# Altium schematic symbol library RMO-V_LibSch.SchLib: 17 symbols
Pins are listed as number, name and electrical type; pins without a type are passive.

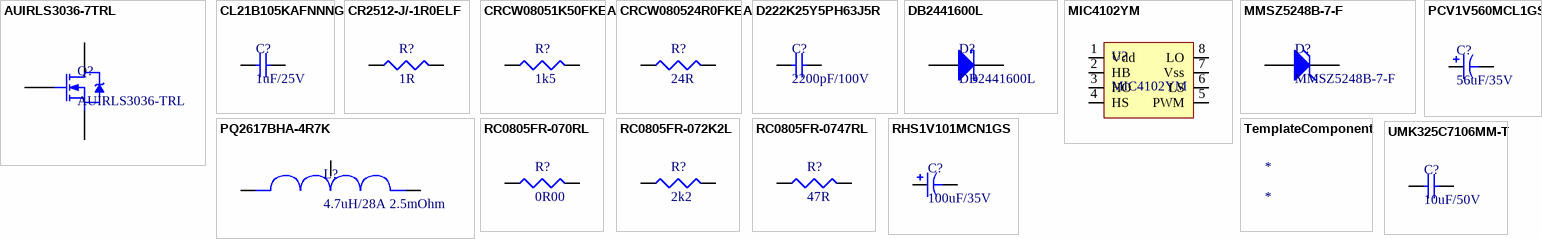
[diagram p0: symbols AUIRLS3036-7TRL to UMK325C7106MM-T]

## AUIRLS3036-7TRL
designator Q?, comment AUIRLS3036-TRL
Trans MOSFET N-CH 60V 300A Automotive 7-Pin(6+Tab) D2PAK T/R; Manufacturer: International Rectifier; Manufacturer Part Number: AUIRLS3036-7TRL; Rise Time: 540ns; Rds On Max: 1.9mR; Input Capacitance: 11.27nF; Drain to Source Resistance: 2.2mR; Power Dissipation: 380W; Number of Elements: 1; Turn-On Delay Time: 81ns; Turn-Off Delay Time: 89ns; Fall Time: 170ns; Gate to Source Voltage (Vgs): 16V; Mount: Surface Mount; Case/Package: D2PAK; Number of Pins: 7; Min Operating Temperature: -55°C; Max Operating Temperature: 175°C; Packaging: Tape and Reel; Package Quantity: 800; Continuous Drain Current (ID): 300A; Drain to Source Breakdown Voltage: 60V; Drain to Source Voltage (Vdss): 60V; Max Power Dissipation: 380W; Radiation Hardening: No; ComponentLink1URL: http://www.irf.com/product-info/datasheets/data/auirls3036-7p.pdf?src-supplier=Digi-Key; ComponentLink1Description: http://www.irf.com/product-info/datasheets/data/auirls3036-7p.pdf?src-supplier=Digi-Key; ComponentLink2URL: http://www.irf.com/product-info/datasheets/data/auirls3036-7p.pdf?src-supplier=Avnet; ComponentLink2Description: http://www.irf.com/product-info/datasheets/data/auirls3036-7p.pdf?src-supplier=Avnet; ComponentLink3URL: http://www.irf.com/product-info/datasheets/data/auirls3036-7p.pdf?src-supplier=Avnet+Europe; ComponentLink3Description: http://www.irf.com/product-info/datasheets/data/auirls3036-7p.pdf?src-supplier=Avnet+Europe; Category: MOSFET
pins: 1 G, 2 D, 3 S

## CL21B105KAFNNNG
designator C?, comment 1uF/25V
1µF ±10% 25V Ceramic Capacitor X7R 0805 (2012 Metric); Manufacturer: Samsung Electro-Mechanics; Manufacturer Part Number: CL21B105KAFNNNG; Type: SMD; Package: CAPC2012X88N; Category: Capasitor; Max Rated Voltage: 25V; Temperature coefficient: X7R; Supplier1: Digi-key; Supplier part number: 1276-6469-2-ND; ComponentLink1Description: Datasheet; ComponentLink1URL: http://www.samsungsem.com/kr/support/product-search/mlcc/__icsFiles/afieldfile/2019/06/18/CL21B105KAFNNNG-19.pdf; Tolerance: 10%
pins: 1, 2

## CR2512-J/-1R0ELF
designator R?, comment 1R
Thick Film Resistors - SMD CHIP RESISTOR; Manufacturer: Bourns; Manufacturer Part Number: CR2512-J/-1R0ELF; Power rating: 1W; Tolerance: 5%; Voltage rating: 200V; Package: RESC2012X60N; Category: Resistor; Resistance: 1R; Type: SMD; Supplier1: Mouser; Supplier part number: 652-CR2512-J/-1R0ELF; ComponentLink1Description: Datasheet; ComponentLink1URL: https://eu.mouser.com/datasheet/2/54/cr2010-777415.pdf
pins: 1, 2

## CRCW08051K50FKEA
designator R?, comment 1k5
Res Thick Film 0805 1.5K Ohm 1% 1/8W ±100ppm/°C Molded SMD Paper T/R; Manufacturer: Vishay; Manufacturer Part Number: CRCW08051K50FKEA; Power rating: 0.125 W; Package: RESC2012X60N; Category: Resistor; Resistance: 1k5; Tolerance: 1%; Number of pins: 2; Type: SMD; Supplier1: Future electronics; Supplier part number: CRCW08051K50FKEA; ComponentLink1Description: Datasheet; ComponentLink1URL: http://www.vishay.com/docs/20035/dcrcwe3.pdf
pins: 1, 2

## CRCW080524R0FKEA
designator R?, comment 24R
Res Thick Film 0805 24 Ohm 1% 1/8W ±100ppm/°C Molded SMD Paper T/R; Manufacturer: Vishay; Manufacturer Part Number: CRCW080524R0FKEA; Power rating: 0.125W; Package: RESC1608X50N; Category: Resistor; Resistance: 24R; Tolerance: 1%; Number of pins: 2; Type: SMD; Supplier1: Avnet abacus; Supplier part number: CRCW080524R0FKEA; ComponentLink1Description: Datasheet; ComponentLink1URL: http://www.vishay.com/docs/20035/dcrcwe3.pdf
pins: 1, 2

## D222K25Y5PH63J5R
designator C?, comment 2200pF/100V
D222K25Y5PH63J5R -  Ceramic Disc Capacitor, 2200 pF, 100 V, D Series, ± 10%, Y5P, 5 mm; Manufacturer: Vishay; Max Rated Voltage: 100V; Type: THT; Manufacturer Part Number: D222K25Y5PH63J5R; Package: *; Category: Capasitor; Dielectric Characteristic: Y5P; Supplier1: Farnell; Supplier part number: 1827838; Tolerance: 10%; ComponentLink1Description: Datasheet; ComponentLink1URL: http://www.farnell.com/datasheets/2046069.pdf?_ga=2.161221557.908146518.1581324380-437978810.1505463394
pins: 1, 2

## DB2441600L
designator D?
Diodes - General Purpose, Power, Switching Schottky Barrier Diode; Manufacturer: Panasonic; Peak Reverse Voltage: 40 V; Max Surge Current: 50 A; Forward Current: 3 A; Type: SMD; Manufacturer Part Number: DB2441600L; Package: *; Category: Shottky; Supplier1: Mouser; Supplier part number: 667-DB2441600L; ComponentLink1Description: Datasheet; ComponentLink1URL: https://eu.mouser.com/datasheet/2/315/DB2441600L_E-1141476.pdf
pins: 1 A, 2 K

## MIC4102YM
designator U?
Gate Drivers 100V HalfBridge MOSFET Driver with Anti-Shoot-through Circuitry; Manufacturer: Microchip; Max Output Current: 3A; Max Supply Voltage: 16V; Min Supply Voltage: 9V; Number of Outputs: 2; Rise Time: 10ns; Nominal Supply Current: 3mA; Channel Type: Synchronous; Fall Time: 6ns; Supplier 1: RSComponents; Manufacturer Part Number: MIC4102YM; Stock 1: 0; Mount: Surface Mount; Case/Package: SOIC; Number of Pins: 8; Min Operating Temperature: -40°C; Max Operating Temperature: 125°C; Packaging: Rail/Tube; Output Current: 3A; Package Quantity: 95; Number of Drivers: 2; Termination: SMD/SMT; Length: 4.93mm; Height: 1.48mm; Width: 3.94mm; Lead Free: Lead Free; REACH SVHC: No SVHC; ComponentLink1URL: http://www.farnell.com/datasheets/83997.pdf?src-supplier=Farnell; ComponentLink1Description: http://www.farnell.com/datasheets/83997.pdf?src-supplier=Farnell; ComponentLink2URL: http://datasheet.iiic.cc/micrel/MIC4102YM.pdf?src-supplier=IIIC; ComponentLink2Description: http://datasheet.iiic.cc/micrel/MIC4102YM.pdf?src-supplier=IIIC; Supplier Part Number 1: 9101884; Category: MOSFET Drivers
pins: 1 Vdd, 2 HB, 3 HO, 4 HS, 5 PWM, 6 LS, 7 Vss, 8 LO

## MMSZ5248B-7-F
designator D?
Diodes Inc, 18V Zener Diode 5% 500 mW SMT 2-Pin SOD-123; Manufacturer: Diode Zetex; Maximum Power Dissipation: 500 mW; Test Current: 7 mA; Type: SMD; Manufacturer Part Number: MMSZ5248B-7-F; Package: SOD3716X135N; Category: Zener diode; Nominal Zener Voltage: 18 V; Supplier1: RS Components; Supplier part number: 121-9610; ComponentLink1Description: Datasheet; ComponentLink1URL: https://eu.mouser.com/datasheet/2/115/ds18010-38133.pdf
pins: 1 A, 2 K

## PCV1V560MCL1GS
designator C?, comment 56uF/35V
56µF 35V Aluminum Polymer Capacitor Radial, Can - SMD 31mOhm 3000 Hrs @ 105°C; Manufacturer: Nichicon; Manufacturer Part Number: PCV1V560MCL1GS; Ripple Current: 1.9A; ESR (Equivalent Series Resistance): 31mR; Capacitance: 56uF; Tolerance: 20%; Leakage Current: 700uA; Life (Hours): 2000Hour; Dissipation Factor: 0.12%; Supplier 1: Mouser; Stock 1: 2294; Pricing 1: 1=2.74, 10=2.25, 25=2.19, 100=1.75, 250=1.66, 500=1.19 (USD); Mount: Surface Mount; Case/Package: SMD/SMT; Min Operating Temperature: -55°C; Max Operating Temperature: 105°C; Packaging: Tape and Reel; Voltage Rating: 35V; Package Quantity: 1; Ripple Current (AC): 1.9A; Voltage Rating (DC): 35V; Termination: SMD/SMT; Diameter: 8mm; Length: 8.3mm; Height: 8.3mm; Width: 8.3mm; Height - Seated (Max): 0.394inch; REACH SVHC: No SVHC; Supplier Part Number 1: 647-RHS1V101MCN1GS; Category: Capacitors
pins: 1, 2

## PQ2617BHA-4R7K
designator L?, comment 4.7uH/28A 2.5mOhm
FIXED IND 4.7UH 28A 2.5MOHM SMD; Manufacturer: Bourns; Manufacturer Part Number: PQ2617BHA-4R7K; Core Material: Ferrite; Tolerance: 10%; Saturation Current: 61.2A; Shielding: Shielded; DC Resistance (DCR): 2.5mR; Self Resonant Frequency: 30MHz; Test Frequency: 100kHz; Supplier 1: Mouser; Supplier Part Number 1: 652-PQ2617BHA-4R7K; Stock 1: 790; Pricing 1: 1=3.71, 5=3.56, 10=3.41, 25=3.1, 50=2.6, 100=2.23 (USD); Mount: Surface Mount; Case/Package: Nonstandard; Min Operating Temperature: -40°C; Max Operating Temperature: 155°C; Composition: Wirewound; Packaging: Tray; Inductance: 4.7uH; Current Rating: 28A; Ratings: AEC-Q200; ComponentLink1URL: https://www.bourns.com/docs/Product-Datasheets/PQ2617.pdf?src-supplier=Digi-Key; ComponentLink1Description: https://www.bourns.com/docs/Product-Datasheets/PQ2617.pdf?src-supplier=Digi-Key; Category: Fixed Inductors
pins: 1, 2, 3

## RC0805FR-070RL
designator R?, comment 0R00
Res Thick Film 0805 0 Ohm Jumper Molded SMD Paper T/R; Manufacturer: Yageo; Manufacturer Part Number: RC0805FR-070RL; Power rating: 0.125 W; Tolerance: 1%; Package: RESC2012X60N; Category: Resistor; Resistance: 0R00; Number of pins: 2; Type: SMD; Supplier1: Avnet abacus; Supplier part number: RC0805FR-070RL; ComponentLink1Description: Datasheet; ComponentLink1URL: https://www.yageo.com/documents/recent/PYu-RC_Group_51_RoHS_L_2.pdf
pins: 1, 2

## RC0805FR-072K2L
designator R?, comment 2k2
RC Series 0805 0.125 W 2.2 kOhm ±1% ±100 ppm/°C SMT Thick Film Chip Resistor; Manufacturer: Yageo; Manufacturer Part Number: RC0805FR-072K2L; Power rating: 0.125W; Package: RESC1608X50N; Category: Resistor; Resistance: 2k2; Tolerance: 1%; Number of pins: 2; Type: SMD; Supplier1: Future electronics; Supplier part number: RC0805FR-072K2L; ComponentLink1Description: Datasheet; ComponentLink1URL: http://www.yageo.ru/pdf/RC0805.pdf
pins: 1, 2

## RC0805FR-0747RL
designator R?, comment 47R
RC Series 0805 0.125 W 47 Ohm ±1% ±100 ppm/°C SMT Thick Film Chip Resistor; Manufacturer: Yageo; Manufacturer Part Number: RC0805FR-0747RL; Power rating: 0.125W; Resistance: 24R; Package: RESC1608X50N; Category: Resistor; Tolerance: 1%; Number of pins: 2; Type: SMD; Supplier1: Future electronics; Supplier part number: RC0805FR-0747RL; ComponentLink1Description: Datasheet; ComponentLink1URL: https://www.yageo.com/upload/media/product/productsearch/datasheet/rchip/PYu-RC_Group_51_RoHS_L_10.pdf
pins: 1, 2

## RHS1V101MCN1GS
designator C?, comment 100uF/35V
NICHICON         RHS1V101MCN1GS             ALUMINUM ELECTROLYTIC CAPACITOR, 100UF, 20%, 35V, SMD; Ripple Current: 3A; ESR (Equivalent Series Resistance): 25mR; Leakage Current: 700uA; Life (Hours): 2000Hour; Dissipation Factor: 0.12%; Supplier 1: Mouser; Manufacturer: Nichicon; Manufacturer Part Number: RHS1V101MCN1GS; Stock 1: 2294; Pricing 1: 1=2.74, 10=2.25, 25=2.19, 100=1.75, 250=1.66, 500=1.19 (USD); Mount: Surface Mount; Case/Package: SMD/SMT; Min Operating Temperature: -55°C; Max Operating Temperature: 105°C; Packaging: Tape and Reel; Capacitance: 100uF; Tolerance: 20%; Voltage Rating: 35V; Package Quantity: 1; Ripple Current (AC): 3A; Voltage Rating (DC): 35V; Termination: SMD/SMT; Diameter: 8mm; Length: 8.7mm; Height: 8.3mm; Width: 8.3mm; Height - Seated (Max): 0.354inch; REACH SVHC: No SVHC; ComponentLink1URL: http://nichicon-us.com/english/products/pdfs/e-p_ref.pdf?src-supplier=Digi-Key; ComponentLink1Description: http://nichicon-us.com/english/products/pdfs/e-p_ref.pdf?src-supplier=Digi-Key; ComponentLink2URL: http://www.fpcap.jp/en/products/pdf/me-hs_hae.pdf?src-supplier=Element14; ComponentLink2Description: http://www.fpcap.jp/en/products/pdf/me-hs_hae.pdf?src-supplier=Element14; ComponentLink3URL: http://www.mouser.com/ds/2/293/2012fpcap_catalog_hsha-5758.pdf?src-supplier=Mouser; ComponentLink3Description: http://www.mouser.com/ds/2/293/2012fpcap_catalog_hsha-5758.pdf?src-supplier=Mouser; Supplier Part Number 1: 647-RHS1V101MCN1GS; Category: Capacitors
pins: 1, 2

## TemplateComponent
designator *
Manufacturer: *; Manufacturer Part Number: *; Package: *; Category: *; Max Output Current: *; Max Supply Voltage: *; Nominal Supply Current: *; Number of pins: *; Type: *; Supplier1: *; Supplier part number: *; ComponentLink1Description: Datasheet; ComponentLink1URL: https://docs.rs-online.com/5097/0900766b8157479a.pdf

## UMK325C7106MM-T
designator C?, comment 10uF/50V
10µF ±20% 50V Ceramic Capacitor X7S 1210 (3225 Metric); Manufacturer: Taiyo Yuden; Manufacturer Part Number: UMK325C7106MM-T; Type: SMD; Package: CAPC3225X125N; Category: Capasitor; Max Rated Voltage: 50 V; Dielectric Characteristic: X7S; Supplier1: Digikey; Supplier part number: 587-1818-2-ND; Tolerance: 20%; ComponentLink1Description: Datasheet; ComponentLink1URL: https://media.digikey.com/pdf/Data%20Sheets/Taiyo%20Yuden%20PDFs%20URL%20links/UMK325C7106MM-T.pdf
pins: 1, 2